# Altium schematic symbol library MOSFET-P.SCHLIB: 1 symbol
Pins are listed as number, name and electrical type; pins without a type are passive.

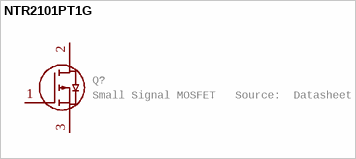
[diagram p0: symbol NTR2101PT1G]

## NTR2101PT1G
designator Q?, comment Small Signal MOSFET   Source:  Datasheet
Manufacturer_Name: ON Semiconductor; GateName_1: G$1; SymbolName_1: NTR2101PT1G; LibraryName: MOSFET-P; DeviceSetName: NTR2101PT1G; Package: SOT96P237X111-3N; Manufacturer_Part_Number: NTR2101PT1G; Mouser_Part_Number: 863-NTR2101PT1G; Mouser_Price-Stock: https://www.mouser.co.uk/ProductDetail/ON-Semiconductor/NTR2101PT1G?qs=ZXBb0xZ9WeAElbwG%2FHcx4g%3D%3D; Arrow_Part_Number: NTR2101PT1G; Arrow_Price-Stock: https://www.arrow.com/en/products/ntr2101pt1g/on-semiconductor; Description: Small Signal MOSFET; Height: 1.11mm
footprint SOT96P237X111-3N
pins: 1 G (io), 2 S (io), 3 D (io)